# EAGLE library part PINHD-2X30 (library pinhead)
PIN HEADER
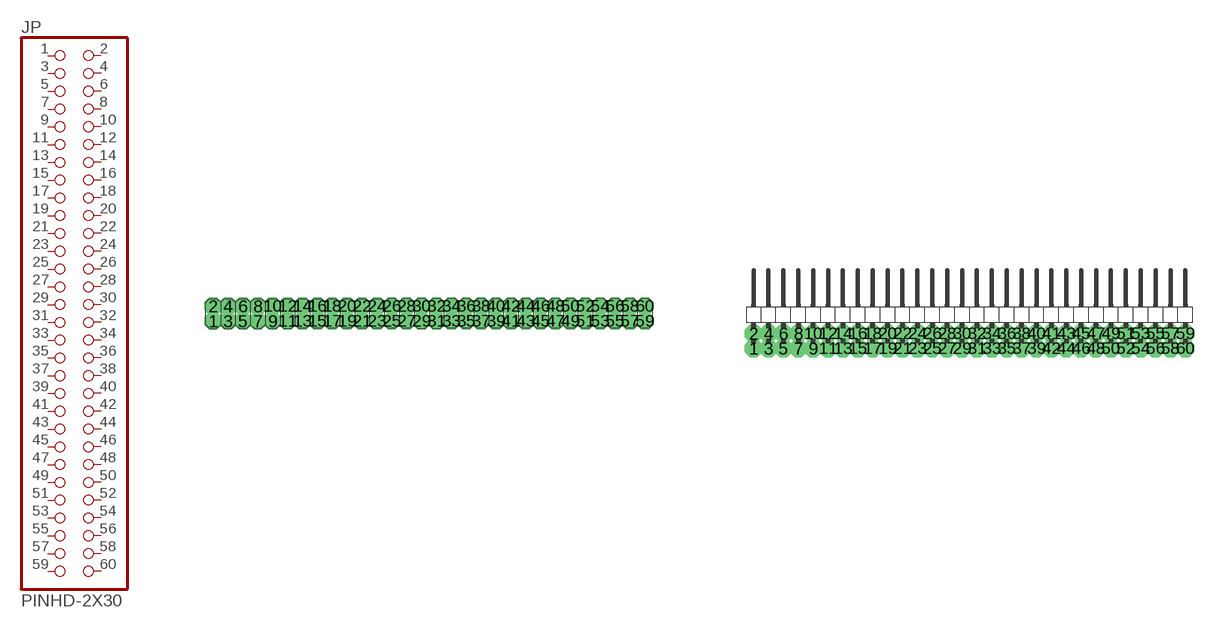
[diagram p41: symbol with the pads of 2X30; footprints 2X30, 2X30/90]

Designator prefix JP

## PINHD-2X30  [2X30]
1  1  pas
2  2  pas
3  3  pas
4  4  pas
5  5  pas
6  6  pas
7  7  pas
8  8  pas
9  9  pas
10  10  pas
11  11  pas
12  12  pas
13  13  pas
14  14  pas
15  15  pas
16  16  pas
17  17  pas
18  18  pas
19  19  pas
20  20  pas
21  21  pas
22  22  pas
23  23  pas
24  24  pas
25  25  pas
26  26  pas
27  27  pas
28  28  pas
29  29  pas
30  30  pas
31  31  pas
32  32  pas
33  33  pas
34  34  pas
35  35  pas
36  36  pas
37  37  pas
38  38  pas
39  39  pas
40  40  pas
41  41  pas
42  42  pas
43  43  pas
44  44  pas
45  45  pas
46  46  pas
47  47  pas
48  48  pas
49  49  pas
50  50  pas
51  51  pas
52  52  pas
53  53  pas
54  54  pas
55  55  pas
56  56  pas
57  57  pas
58  58  pas
59  59  pas
60  60  pas

## PINHD-2X30/90  [2X30/90]
Pads as for 2X30

## Footprint 2X30 (pad centres in mm)
PIN HEADER
drill 0.254 octagon: 1 -9.525,-0.318; 2 -9.525,0.318; 3 -8.89,-0.318; 4 -8.89,0.318; 5 -8.255,-0.318; 6 -8.255,0.318; 7 -7.62,-0.318; 8 -7.62,0.318; 9 -6.985,-0.318; 10 -6.985,0.318; 11 -6.35,-0.318; 12 -6.35,0.318; 13 -5.715,-0.318; 14 -5.715,0.318; 15 -5.08,-0.318; 16 -5.08,0.318; 17 -4.445,-0.318; 18 -4.445,0.318; 19 -3.81,-0.318; 20 -3.81,0.318; 21 -3.175,-0.318; 22 -3.175,0.318; 23 -2.54,-0.318; 24 -2.54,0.318; 25 -1.905,-0.318; 26 -1.905,0.318; 27 -1.27,-0.318; 28 -1.27,0.318; 29 -0.635,-0.318; 30 -0.635,0.318; 31 0,-0.318; 32 0,0.318; 33 0.635,-0.318; 34 0.635,0.318; 35 1.27,-0.318; 36 1.27,0.318; 37 1.905,-0.318; 38 1.905,0.318; 39 2.54,-0.318; 40 2.54,0.318; 41 3.175,-0.318; 42 3.175,0.318; 43 3.81,-0.318; 44 3.81,0.318; 45 4.445,-0.318; 46 4.445,0.318; 47 5.08,-0.318; 48 5.08,0.318; 49 5.715,-0.318; 50 5.715,0.318; 51 6.35,-0.318; 52 6.35,0.318; 53 6.985,-0.318; 54 6.985,0.318; 55 7.62,-0.318; 56 7.62,0.318; 57 8.255,-0.318; 58 8.255,0.318; 59 8.89,-0.318; 60 8.89,0.318

## Footprint 2X30/90 (pad centres in mm)
PIN HEADER
drill 0.254 octagon: 1 -9.207,-1.587; 2 -9.207,-0.953; 3 -8.572,-1.587; 4 -8.572,-0.953; 5 -7.938,-1.587; 6 -7.938,-0.953; 7 -7.303,-1.587; 8 -7.303,-0.953; 9 -6.668,-1.587; 10 -6.668,-0.953; 11 -6.032,-1.587; 12 -6.032,-0.953; 13 -5.397,-1.587; 14 -5.397,-0.953; 15 -4.763,-1.587; 16 -4.763,-0.953; 17 -4.128,-1.587; 18 -4.128,-0.953; 19 -3.493,-1.587; 20 -3.493,-0.953; 21 -2.857,-1.587; 22 -2.857,-0.953; 23 -2.223,-1.587; 24 -2.223,-0.953; 25 -1.587,-1.587; 26 -1.587,-0.953; 27 -0.953,-1.587; 28 -0.953,-0.953; 29 -0.318,-1.587; 30 -0.318,-0.953; 31 0.318,-1.587; 32 0.318,-0.953; 33 0.953,-1.587; 34 0.953,-0.953; 35 1.587,-1.587; 36 1.587,-0.953; 37 2.223,-1.587; 38 2.223,-0.953; 39 2.857,-1.587; 40 2.857,-0.953; 41 3.493,-0.953; 42 3.493,-1.587; 43 4.128,-0.953; 44 4.128,-1.587; 45 4.763,-0.953; 46 4.763,-1.587; 47 5.397,-0.953; 48 5.397,-1.587; 49 6.032,-0.953; 50 6.032,-1.587; 51 6.668,-0.953; 52 6.668,-1.587; 53 7.303,-0.953; 54 7.303,-1.587; 55 7.938,-0.953; 56 7.938,-1.587; 57 8.572,-0.953; 58 8.572,-1.587; 59 9.207,-0.953; 60 9.207,-1.587